# Altium schematic symbol library SN65HVD235.SchLib: 1 symbol
Pins are listed as number, name and electrical type; pins without a type are passive.

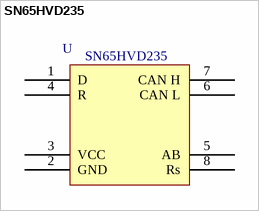
[diagram p0: symbol SN65HVD235]

## SN65HVD235
designator U  value SN65HVD235  (hidden comment: *)
Manufacturer: Texas Instruments; Manufacturer Code: SN65HVD235DG4; Voltage Max.: 3.6V; Voltage Min.: 1.8V; Unit Price: 3,45 €; Farnell Code: 1207269; MOQ: 1
footprint SO8
pins: 1 D, 2 GND, 3 VCC, 4 R, 5 AB, 6 CAN L, 7 CAN H, 8 Rs